# Altium schematic symbol library CUHZ5V6,H3F.SchLib: 1 symbol
Pins are listed as number, name and electrical type; pins without a type are passive.

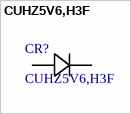
[diagram p0: symbol CUHZ5V6,H3F]

## CUHZ5V6,H3F
designator CR?
5.6 V Zener Diode, SOD-323HE(US2H); Manufacturer_Name: Toshiba Electronic Devices & Storage Corp.; Copyright: Copyright (C) 2026 Ultra Librarian. All rights reserved.; Manufacturer_Part_Number: CUHZ5V6,H3F; Datasheet: https://toshiba.semicon-storage.com/info/docget.jsp?did=141580&prodName=CUHZ5V6; Digi-Key_Part_Number_1: 264-CUHZ5V6H3FTR-ND; Digi-Key_Part_Number_2: 264-CUHZ5V6H3FCT-ND; Digi-Key_Part_Number_3: 264-CUHZ5V6H3FDKR-ND
footprint SOD-323HEUS2H_TOS
pins: 1 CATHODE, 2 ANODE